# Altium footprint library TestPoint.PcbLib: 57 footprints (part 1 of 4)
Each footprint in its own frame and in the unit in brackets; x right, y up, seen from the top. Pads: shape width x height; smd on the part's side, far side on the other; paste and mask are expansions set on the pad; w line width, h text height; cw(c..) or ccw(c..) is an arc to the next point about the centre after c.
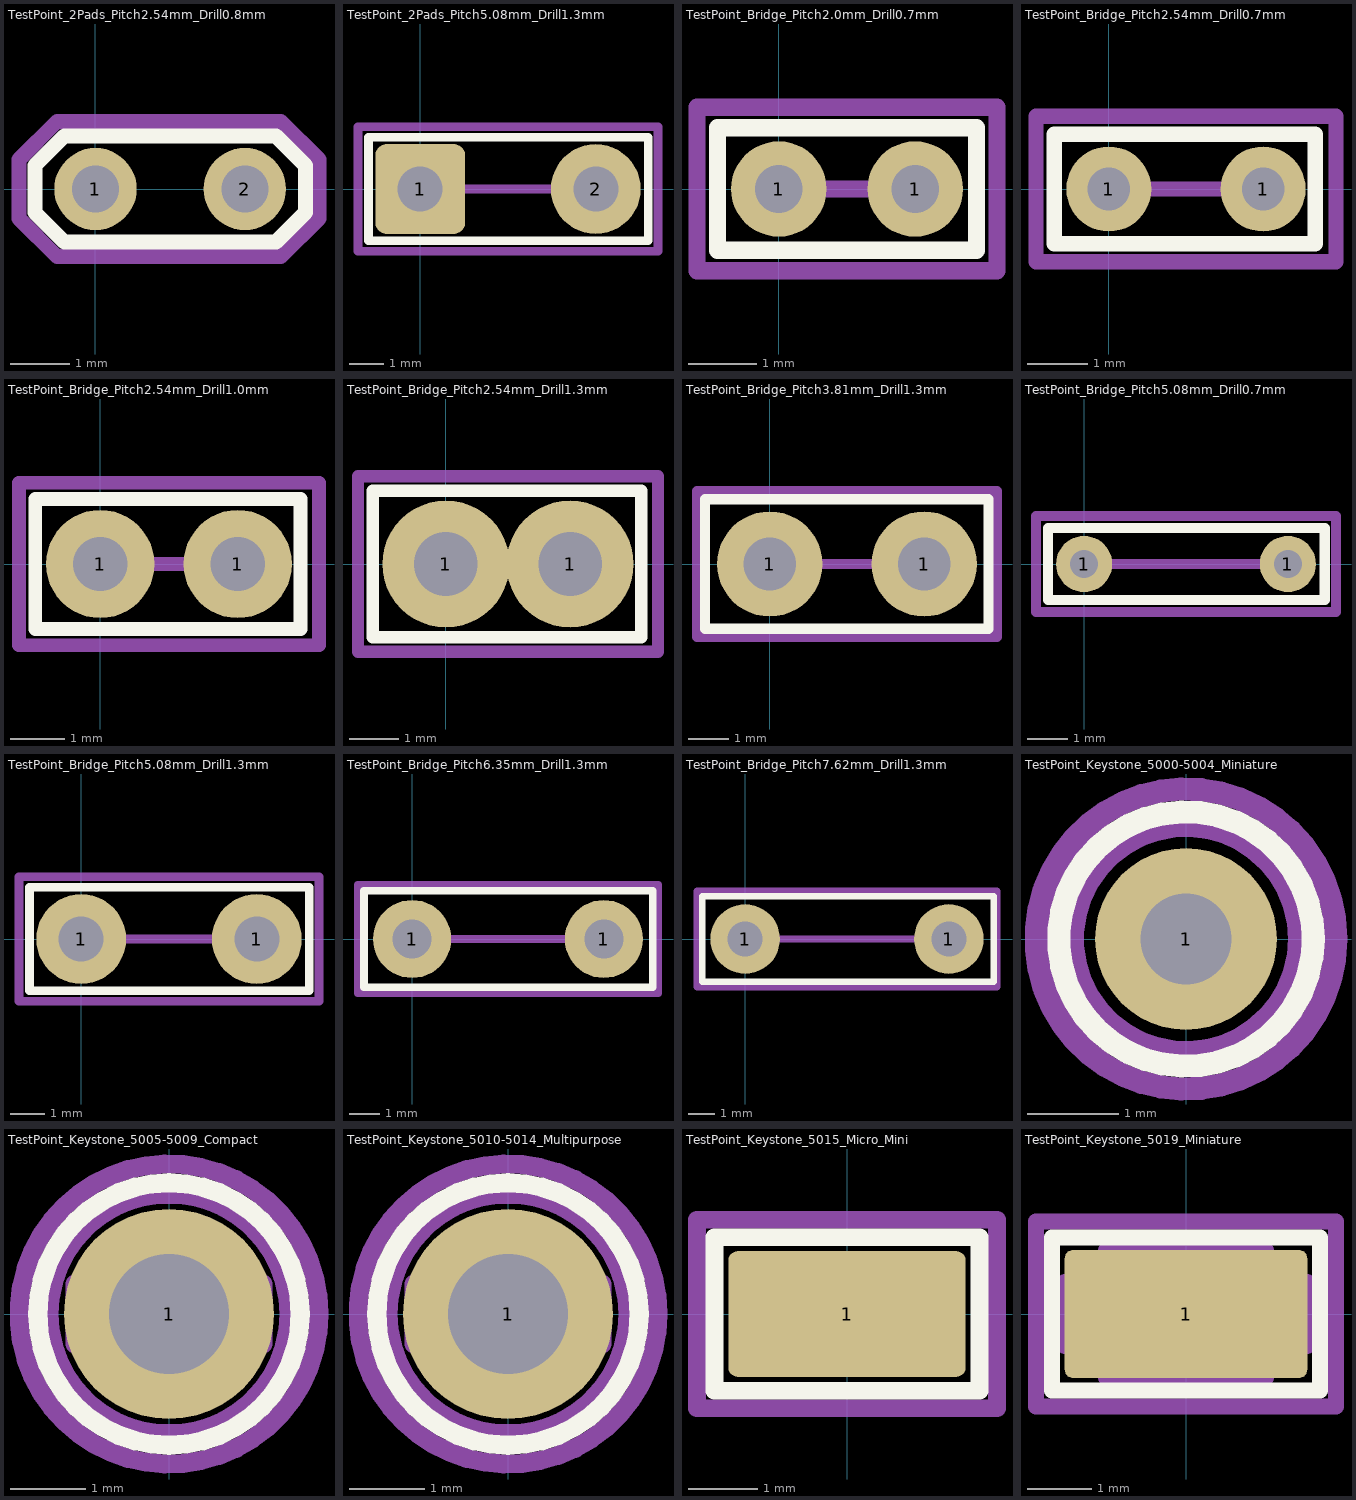
[diagram p0: the footprints below, top view; thin cyan lines are the x and y axes]

## TestPoint_2Pads_Pitch2.54mm_Drill0.8mm [mm]
pads (2):
  round 1.4 hole 0.8: 1(0,0) 2(2.54,0)
F.SilkS:
  lines w0.254: -1.03,-0.4 -1.03,0.4 -0.53,0.9 3.07,0.9 3.57,0.4 3.57,-0.4 3.07,-0.9 -0.53,-0.9 -1.03,-0.4
Top Assembly:
  text "'.Designator'" at -2.747,1.16 h1
Top Courtyard:
  lines w0.254: -1.3,-0.5 -1.3,0.5 -0.65,1.15 3.15,1.15 3.8,0.5 3.8,-0.5 3.15,-1.15 -0.65,-1.15 -1.3,-0.5
Top Designator:
  text ".Designator" at -6.468,0.032 h1.52

## TestPoint_2Pads_Pitch5.08mm_Drill1.3mm [mm]
pads (2):
  rrect25% 2.6x2.6 hole 1.3: 1(0,0)
  round 2.6 hole 1.3: 2(5.08,0)
F.SilkS:
  lines w0.254: -1.5,-1.5 6.6,-1.5 6.6,1.5 -1.5,1.5 -1.5,-1.5
Top Assembly:
  lines w0.254: 0,0 5.08,0
  text "'.Designator'" at -1.507,-0.84 h1
Top Courtyard:
  lines w0.254: -1.8,-1.8 6.88,-1.8 6.88,1.8 -1.8,1.8 -1.8,-1.8
Top Designator:
  text ".Designator" at -5.078,-0.508 h1.52

## TestPoint_Bridge_Pitch2.0mm_Drill0.7mm [mm]
pads (2):
  round 1.4 hole 0.7: 1(0,0) 1(2,0)
F.SilkS:
  lines w0.254: -0.9,-0.9 2.9,-0.9 2.9,0.9 -0.9,0.9 -0.9,-0.9
Top Assembly:
  lines w0.254: 0,0 2,0
  text "'.Designator'" at -2.947,-2.54 h1
Top Courtyard:
  lines w0.254: -1.2,-1.2 3.2,-1.2 3.2,1.2 -1.2,1.2 -1.2,-1.2
Top Designator:
  text ".Designator" at -6.668,-1.356 h1.52

## TestPoint_Bridge_Pitch2.54mm_Drill0.7mm [mm]
pads (2):
  round 1.4 hole 0.7: 1(0,0) 1(2.54,0)
F.SilkS:
  lines w0.254: -0.9,-0.9 3.4,-0.9 3.4,0.9 -0.9,0.9 -0.9,-0.9
Top Assembly:
  lines w0.254: 0,0 2.54,0
  text "'.Designator'" at -2.947,-2.54 h1
Top Courtyard:
  lines w0.254: -1.2,-1.2 3.74,-1.2 3.74,1.2 -1.2,1.2 -1.2,-1.2
Top Designator:
  text ".Designator" at -6.668,-1.356 h1.52

## TestPoint_Bridge_Pitch2.54mm_Drill1.0mm [mm]
pads (2):
  round 2 hole 1: 1(0,0) 1(2.54,0)
F.SilkS:
  lines w0.254: -1.2,-1.2 3.7,-1.2 3.7,1.2 -1.2,1.2 -1.2,-1.2
Top Assembly:
  lines w0.254: 0,0 2.54,0
  text "'.Designator'" at -2.947,-2.94 h1
Top Courtyard:
  lines w0.254: -1.5,-1.5 4.04,-1.5 4.04,1.5 -1.5,1.5 -1.5,-1.5
Top Designator:
  text ".Designator" at -6.668,-1.406 h1.52

## TestPoint_Bridge_Pitch2.54mm_Drill1.3mm [mm]
pads (2):
  round 2.6 hole 1.3: 1(0,0) 1(2.54,0)
F.SilkS:
  lines w0.254: -1.5,-1.5 4,-1.5 4,1.5 -1.5,1.5 -1.5,-1.5
Top Assembly:
  lines w0.254: 0,0 2.54,0
  text "'.Designator'" at -2.947,-3.14 h1
Top Courtyard:
  lines w0.254: -1.8,-1.8 4.34,-1.8 4.34,1.8 -1.8,1.8 -1.8,-1.8
Top Designator:
  text ".Designator" at -6.668,-1.356 h1.52

## TestPoint_Bridge_Pitch3.81mm_Drill1.3mm [mm]
pads (2):
  round 2.6 hole 1.3: 1(0,0) 1(3.81,0)
F.SilkS:
  lines w0.254: -1.6,-1.6 5.4,-1.6 5.4,1.6 -1.6,1.6 -1.6,-1.6
Top Assembly:
  lines w0.254: 0,0 3.81,0
  text "'.Designator'" at -2.447,-3.24 h1
Top Courtyard:
  lines w0.254: -1.8,-1.8 5.61,-1.8 5.61,1.8 -1.8,1.8 -1.8,-1.8
Top Designator:
  text ".Designator" at -6.047,-1.406 h1.52

## TestPoint_Bridge_Pitch5.08mm_Drill0.7mm [mm]
pads (2):
  round 1.4 hole 0.7: 1(0,0) 1(5.08,0)
F.SilkS:
  lines w0.254: -0.9,-0.9 6,-0.9 6,0.9 -0.9,0.9 -0.9,-0.9
Top Assembly:
  lines w0.254: 0,0 5.08,0
  text "'.Designator'" at -1.247,-2.74 h1
Top Courtyard:
  lines w0.254: -1.2,-1.2 6.28,-1.2 6.28,1.2 -1.2,1.2 -1.2,-1.2
Top Designator:
  text ".Designator" at -4.968,-1.456 h1.52

## TestPoint_Bridge_Pitch5.08mm_Drill1.3mm [mm]
pads (2):
  round 2.6 hole 1.3: 1(0,0) 1(5.08,0)
F.SilkS:
  lines w0.254: -1.5,-1.5 6.6,-1.5 6.6,1.5 -1.5,1.5 -1.5,-1.5
Top Assembly:
  lines w0.254: 0,0 5.08,0
  text "'.Designator'" at -1.247,-3.14 h1
Top Courtyard:
  lines w0.254: -1.8,-1.8 6.88,-1.8 6.88,1.8 -1.8,1.8 -1.8,-1.8
Top Designator:
  text ".Designator" at -5.078,-1.356 h1.52

## TestPoint_Bridge_Pitch6.35mm_Drill1.3mm [mm]
pads (2):
  round 2.6 hole 1.3: 1(0,0) 1(6.38,0)
F.SilkS:
  lines w0.254: -1.6,-1.6 8,-1.6 8,1.6 -1.6,1.6 -1.6,-1.6
Top Assembly:
  lines w0.254: 0,0 6.35,0
  text "'.Designator'" at -0.747,-3.24 h1
Top Courtyard:
  lines w0.254: -1.8,-1.8 8.18,-1.8 8.18,1.8 -1.8,1.8 -1.8,-1.8
Top Designator:
  text ".Designator" at -4.428,-1.406 h1.52

## TestPoint_Bridge_Pitch7.62mm_Drill1.3mm [mm]
pads (2):
  round 2.6 hole 1.3: 1(0,0) 1(7.62,0)
F.SilkS:
  lines w0.254: -1.6,-1.6 9.3,-1.6 9.3,1.6 -1.6,1.6 -1.6,-1.6
Top Assembly:
  lines w0.254: 0,0 7.62,0
  text "'.Designator'" at -0.747,-3.24 h1
Top Courtyard:
  lines w0.254: -1.8,-1.8 9.42,-1.8 9.42,1.8 -1.8,1.8 -1.8,-1.8
Top Designator:
  text ".Designator" at -3.808,-1.406 h1.52

## TestPoint_Keystone_5000-5004_Miniature [mm]
pads (1):
  round 2 hole 1: 1(0,0)
F.SilkS:
  circle w0.254: c0,0 r1.4
Top Assembly:
  circle w0.254: c0,0 r1.25
  lines w0.254: -0.75,-0.25 0.75,-0.25 0.75,0.25 -0.75,0.25 -0.75,-0.25
  text "'.Designator'" at -4.047,1.66 h1
Top Courtyard:
  circle w0.254: c0,0 r1.65
Top Designator:
  text ".Designator" at -7.768,0.032 h1.52

## TestPoint_Keystone_5005-5009_Compact [mm]
pads (1):
  round 2.8 hole 1.6: 1(0,0)
F.SilkS:
  circle w0.254: c0,0 r1.75
Top Assembly:
  circle w0.254: c0,0 r1.6
  lines w0.254: -1.25,-0.4 1.25,-0.4 1.25,0.4 -1.25,0.4 -1.25,-0.4
  text "'.Designator'" at -2.428,-0.504 h0.6
Top Courtyard:
  circle w0.254: c0,0 r2
Top Designator:
  text ".Designator" at -7.708,-0.508 h1.52

## TestPoint_Keystone_5010-5014_Multipurpose [mm]
pads (1):
  round 2.8 hole 1.6: 1(0,0)
F.SilkS:
  circle w0.254: c0,0 r1.75
Top Assembly:
  circle w0.254: c0,0 r1.6
  lines w0.254: -1.25,-0.4 1.25,-0.4 1.25,0.4 -1.25,0.4 -1.25,-0.4
  text "'.Designator'" at -2.428,-0.504 h0.6
Top Courtyard:
  circle w0.254: c0,0 r2
Top Designator:
  text ".Designator" at -7.708,-0.508 h1.52

## TestPoint_Keystone_5015_Micro_Mini [mm]
pads (1):
  rrect14% 3.4x1.8 smd: 1(0,0)
F.SilkS:
  lines w0.254: -1.9,-1.1 1.9,-1.1 1.9,1.1 -1.9,1.1 -1.9,-1.1
Top Assembly:
  lines w0.254: -1.35,-0.5 1.35,-0.5 1.35,0.5 -1.35,0.5 -1.35,-0.5
  text "'.Designator'" at -2.428,-0.504 h0.6
Top Courtyard:
  lines w0.254: -2.15,-1.35 2.15,-1.35 2.15,1.35 -2.15,1.35 -2.15,-1.35
Top Designator:
  text ".Designator" at -7.708,-0.508 h1.52

## TestPoint_Keystone_5019_Miniature [mm]
pads (1):
  rrect12% 3.8x2 smd: 1(0,0)
F.SilkS:
  lines w0.254: -2.1,-1.2 2.1,-1.2 2.1,1.2 -2.1,1.2 -2.1,-1.2
Top Assembly:
  lines w0.254: 0,-1 1.25,-1 1.25,-0.5 0,-0.5 ; 0,-1 0,-0.5 ; 0,-1 0,-0.5 ; 0,-1 -1.25,-1 -1.25,-0.5 0,-0.5 ; 0,0.5 1.25,0.5 1.25,1 0,1 ; 0,0.5 0,1 ; 0,0.5 0,1 ; 0,0.5 -1.25,0.5 -1.25,1 0,1 ; -1.9,-0.5 1.9,-0.5 1.9,0.5 -1.9,0.5 -1.9,-0.5
  text "'.Designator'" at -3.642,-0.756 h0.9
Top Courtyard:
  lines w0.254: -2.35,-1.45 2.35,-1.45 2.35,1.45 -2.35,1.45 -2.35,-1.45
Top Designator:
  text ".Designator" at -7.753,-0.508 h1.52